# EAGLE library part 0475890001 (library Sala-Eng-Molex)
Molex USB 0475890001 Surface mount USB Micro B
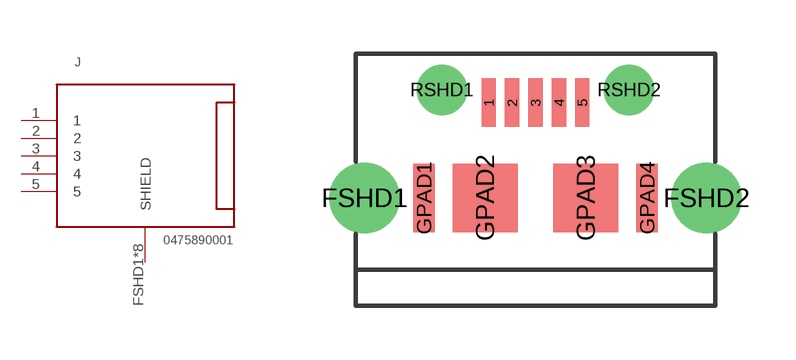
[diagram p0: symbol with the pads of 0475890001; footprint 0475890001]

Designator prefix J

## 0475890001 (MAN-PART-NUM: 0475890001; MANUFACTURER: Molex)  [0475890001]
1  1
2  2
3  3
4  4
5  5
FSHD1  SHIELD
FSHD2  SHIELD
GPAD1  SHIELD
GPAD2  SHIELD
GPAD3  SHIELD
GPAD4  SHIELD
RSHD1  SHIELD
RSHD2  SHIELD

## Footprint 0475890001 (pad centres in mm)
Molex USB 0475890001 Right Angle Surface mount USB Micro B
smd 0.4 x 1.35: 1 -1.3,2.65; 2 -0.65,2.65; 3 0,2.65; 4 0.65,2.65; 5 1.3,2.65
drill 1.3: FSHD1 -4.75,0; FSHD2 4.75,0
smd 0.6 x 1.9: GPAD1 -3.1,0; GPAD4 3.1,0
smd 1.8 x 1.9: GPAD2 -1.4,0; GPAD3 1.4,0
drill 0.889: RSHD1 -2.6,3; RSHD2 2.6,3